# EAGLE library part CCS811 (library CRD)
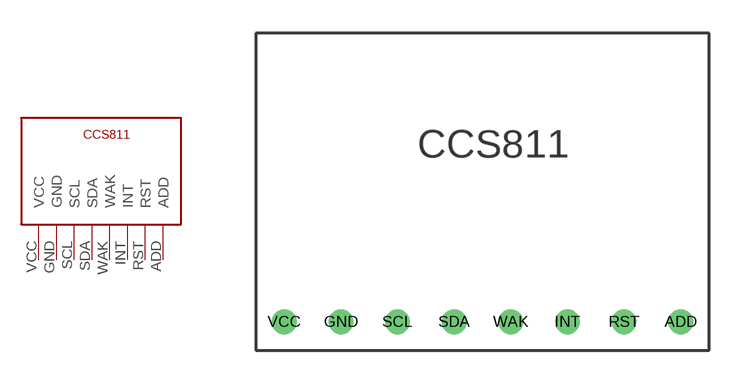
[diagram p8: symbol with the pads of CCS811_FOOTPRINT; footprint CCS811_FOOTPRINT]

Designator prefix -

## CCS811  [CCS811_FOOTPRINT]
ADD  ADD
GND  GND
INT  INT
RST  RST
SCL  SCL
SDA  SDA
VCC  VCC
WAK  WAK

## Footprint CCS811_FOOTPRINT (pad centres in mm)
drill 0.6: ADD 8.89,-5.08; GND -6.35,-5.08; INT 3.81,-5.08; RST 6.35,-5.08; SCL -3.81,-5.08; SDA -1.27,-5.08; VCC -8.89,-5.08; WAK 1.27,-5.08